# Altium footprint library rs-232.PcbLib: 2 footprints
Each footprint in its own frame and in the unit in brackets; x right, y up, seen from the top. Pads: shape width x height; smd on the part's side, far side on the other; paste and mask are expansions set on the pad; w line width, h text height; cw(c..) or ccw(c..) is an arc to the next point about the centre after c.
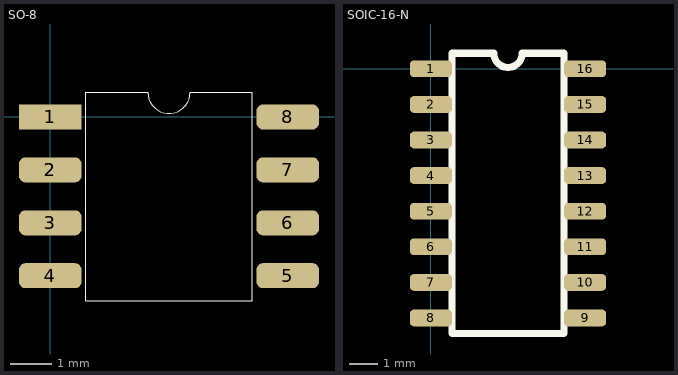
[diagram p0: the footprints below, top view; thin cyan lines are the x and y axes]

## SO-8 [mm]
pads (8):
  rect 1.5x0.6 smd: 1(0,0)
  rrect50% 1.5x0.6 smd: 2(0,-1.27) 3(0,-2.54) 4(0,-3.81) 5(5.7,-3.81) 6(5.7,-2.54) 7(5.7,-1.27) 8(5.7,0)
Top Overlay:
  lines w0.025: 0.85,-4.405 0.85,0.595 2.342,0.595 ccw(c2.85,0.595) 3.358,0.595 4.85,0.595 4.85,-4.405 0.85,-4.405

## SOIC-16-N [mm]
pads (16):
  rrect50% 1.5x0.6 smd: 1(0,0) 2(0,-1.27) 3(0,-2.54) 4(0,-3.81) 5(0,-5.08) 6(0,-6.35) 7(0,-7.62) 8(0,-8.89) 9(5.5,-8.89) 10(5.5,-7.62) 11(5.5,-6.35) 12(5.5,-5.08) 13(5.5,-3.81) 14(5.5,-2.54) 15(5.5,-1.27) 16(5.5,0)
Top Overlay:
  lines w0.254: 0.75,-9.445 4.75,-9.445 4.75,0.555 3.258,0.555 cw(c2.75,0.555) 2.242,0.555 0.75,0.555 0.75,-9.445